# Altium schematic symbol library Connector.SchLib: 2 symbols
Pins are listed as number, name and electrical type; pins without a type are passive.

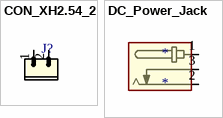
[diagram p0: symbols CON_XH2.54_2 to DC_Power_Jack]

## CON_XH2.54_2
designator J?  (value not drawn)
footprint XH2.54_2
pins: 1, 2

## DC_Power_Jack
designator *
footprint DC005; pin to pad 1>3 3>1
pins: 1, 2, 3